# Altium schematic symbol library Capacitor_2Pin.Schlib: 1 symbol
Pins are listed as number, name and electrical type; pins without a type are passive.

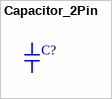
[diagram p0: symbol Capacitor_2Pin]

## Capacitor_2Pin
designator C?
Non-Polarized Capacitor
pins: 1, 2